# Altium schematic symbol library PCB_Project1.SCHLIB: 32 symbols
Pins are listed as number, name and electrical type; pins without a type are passive.

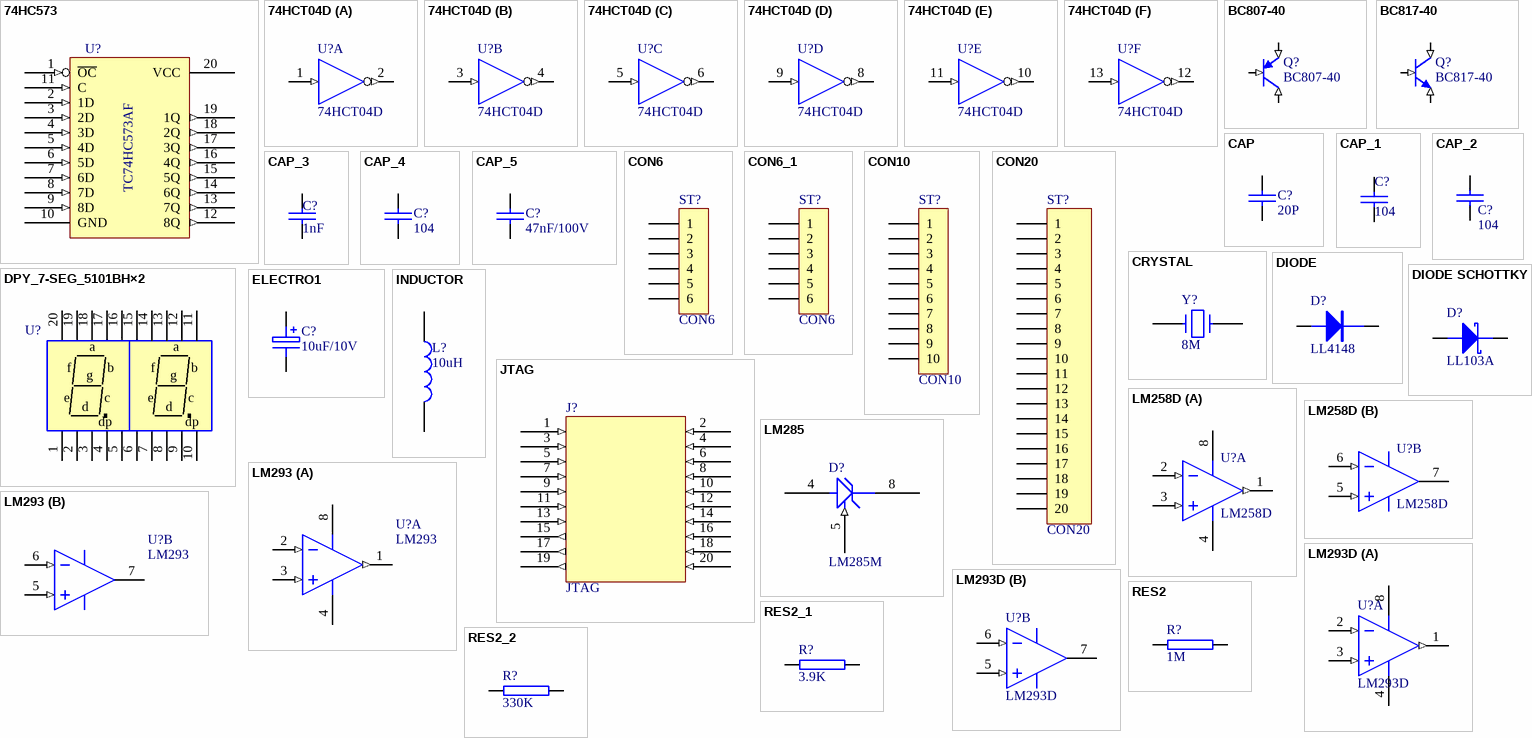
[diagram p0: symbols 74HC573 to RES2_2]

## 74HC573
designator U?, comment TC74HC573AF
footprint DIP-20
footprint SOP20-P-300-1.27
footprint 74HC573
pins: 1 ~{OC} (in), 2 1D (in), 3 2D (in), 4 3D (in), 5 4D (in), 6 5D (in), 7 6D (in), 8 7D (in), 9 8D (in), 10 GND (power), 11 C (in), 12 8Q (out), 13 7Q (out), 14 6Q (out), 15 5Q (out), 16 4Q (out), 17 3Q (out), 18 2Q (out), 19 1Q (out), 20 VCC (power)
2 alternate drawings of the same symbol

## 74HCT04D
designator U?
Hex Inverter
footprint DIP-14
simulation model 74HCT04D (SIMCODE)
footprint SO-14
part A pins: 1 A (in), 2 Y (out), 7 GND (power) hidden to GND, 14 VCC (power) hidden to VCC
part B pins: 3 A (in), 4 Y (out), 7 GND (power) hidden to GND, 14 3.3V (power) hidden to 3.3V
part C pins: 5 A (in), 6 Y (out), 7 GND (power) hidden to GND, 14 VCC (power) hidden to VCC
part D pins: 7 GND (power) hidden to GND, 8 Y (out), 9 A (in), 14 VCC (power) hidden to VCC
part E pins: 7 GND (power) hidden to GND, 10 Y (out), 11 A (in), 14 VCC (power) hidden to VCC
part F pins: 7 GND (power) hidden to GND, 12 Y (out), 13 A (in), 14 VCC (power) hidden to VCC
1 alternate drawing of the same symbol

## BC807-40
designator Q?
footprint SOT-23
pins: 1 B (in), 2 E (in), 3 C (in)

## BC817-40
designator Q?
footprint SOT-23
pins: 1 B (in), 2 E (in), 3 C (in)

## CAP
designator C?, comment 20P
Capacitor
footprint RAD0.2
footprint RAD0.3
footprint RAD0.4
footprint 1206
footprint 0603
pins: 1, 2
2 alternate drawings of the same symbol

## CAP_1
designator C?, comment 104
Capacitor
footprint 0805
footprint RAD0.2
footprint RAD0.3
footprint 1206
footprint 0603
pins: 1, 2
2 alternate drawings of the same symbol

## CAP_2
designator C?, comment 104
Capacitor
footprint RAD0.2
footprint RAD0.3
footprint RAD0.4
footprint 1206
footprint 0603
pins: 1, 2

## CAP_3
designator C?, comment 1nF
Capacitor
footprint 0805
footprint RAD0.2
footprint RAD0.3
footprint 1206
footprint 0603
pins: 1, 2

## CAP_4
designator C?, comment 104
footprint N0603
footprint D0603
footprint D_0805
footprint D0805
footprint 0603
pins: 1, 2
2 alternate drawings of the same symbol

## CAP_5
designator C?, comment 47nF/100V
Capacitor
footprint 0805
footprint RAD0.2
footprint RAD0.3
footprint 1206
pins: 1, 2

## CON6
designator ST?
Connector
footprint STOCKO6V
pins: 1, 2, 3, 4, 5, 6

## CON6_1
designator ST?, comment CON6
footprint 2.54-6
footprint SIP6-A
footprint MC1.5/6-GF-3.81
footprint TJC3-6T-A
pins: 1, 2, 3, 4, 5, 6

## CON10
designator ST?
Connector
footprint CON10
footprint SIP10-A
footprint IDC10-B
pins: 1, 2, 3, 4, 5, 6, 7, 8, 9, 10

## CON20
designator ST?
Connector
footprint STOCKO20V
pins: 1, 2, 3, 4, 5, 6, 7, 8, 9, 10, 11, 12, 13, 14, 15, 16, 17, 18, 19, 20

## CRYSTAL
designator Y?, comment 8M
Crystal
footprint CRYSTAL-8M
pins: 1, 2
2 alternate drawings of the same symbol

## DIODE
designator D?, comment LL4148
Diode
footprint DIOS130A
pins: 1 A, 2 K

## DIODE SCHOTTKY
designator D?, comment LL103A
Schottky Diode
footprint DIOS130A
pins: 1 A, 2 K

## DPY_7-SEG_5101BH×2
designator U?, comment 5101BH×2  (value not drawn)
footprint DIP-20
pins: 1, 2, 3, 4, 5, 6, 7, 8, 9, 10, 11, 12, 13, 14, 15, 16, 17, 18, 19, 20
text: a; f; b; g; e; c; d; dp

## ELECTRO1
designator C?, comment 10uF/10V
Electrolytic Capacitor
footprint C-坦电容
pins: 1, 2
2 alternate drawings of the same symbol

## INDUCTOR
designator L?, comment 10uH
footprint INDUCTOR
pins: 1, 2
2 alternate drawings of the same symbol

## JTAG
designator J?
footprint DIP-14
footprint J-TAG
pins: 1 (in), 2 (in), 3 (in), 4 (in), 5 (in), 6 (in), 7 (in), 8 (in), 9 (in), 10 (in), 11 (in), 12 (in), 13 (in), 14 (in), 15 (out), 16 (in), 17 (out), 18 (in), 19 (out), 20 (in)
2 alternate drawings of the same symbol

## LM258D
designator U?
JFET-Input Operational Amplifiers
footprint SO-8
footprint DIP-8
simulation model LM258D (SUBCKT)
part A pins: 1 OUT (out), 2 IN1- (in), 3 IN1+ (in), 4 VCC- (power), 8 VCC+ (power)
part B pins: 5 IN2+ (in), 6 IN2- (in), 7 OUT

## LM285
designator D?, comment LM285M
footprint SO-8
pins: 4 A, 5 ADJ (in), 8 C

## LM293
designator U?
JFET-Input Operational Amplifiers
footprint SO-8
footprint DIP-8
simulation model LM293 (SUBCKT)
part A pins: 1 OUT (out), 2 IN1- (in), 3 IN1+ (in), 4 VCC- (power), 8 VCC+ (power)
part B pins: 5 IN2+ (in), 6 IN2- (in), 7 OUT

## LM293D
designator U?
JFET-Input Operational Amplifiers
footprint SO-8
footprint DIP-8
simulation model LM293D (SUBCKT)
part A pins: 1 OUT (out), 2 IN1- (in), 3 IN1+ (in), 4 VCC- (power), 8 VCC+ (power)
part B pins: 5 IN2+ (in), 6 IN2- (in), 7 OUT

## RES2
designator R?, comment 1M
footprint 0805
footprint 1206
footprint AXIAL0.3
footprint AXIAL0.4
footprint 0603
pins: 1, 2
2 alternate drawings of the same symbol

## RES2_1
designator R?, comment 3.9K
footprint 0805
footprint 1206
footprint AXIAL0.3
footprint AXIAL0.4
footprint 0603
pins: 1, 2

## RES2_2
designator R?, comment 330K
footprint 1206
footprint AXIAL0.3
footprint AXIAL0.4
footprint AXIAL0.5
footprint 0603
pins: 1, 2

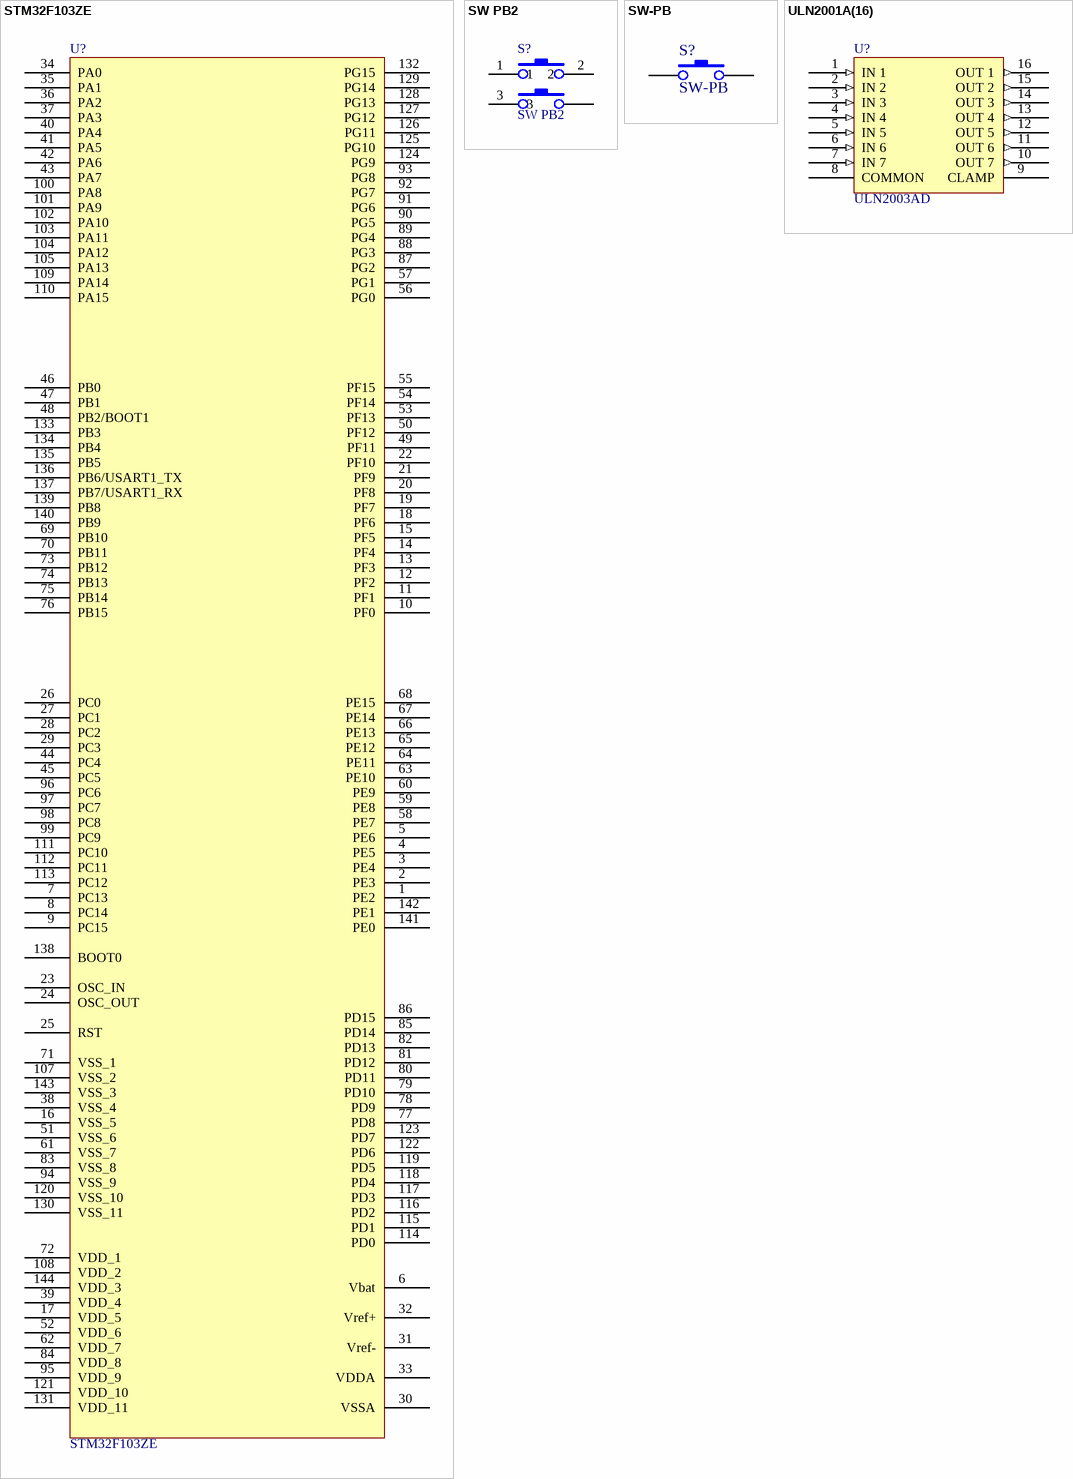
[diagram p1: symbols STM32F103ZE to ULN2001A(16)]

## STM32F103ZE
designator U?
footprint STM32F103ZE
pins: 1 PE2, 2 PE3, 3 PE4, 4 PE5, 5 PE6, 6 Vbat, 7 PC13, 8 PC14, 9 PC15, 10 PF0, 11 PF1, 12 PF2, 13 PF3, 14 PF4, 15 PF5, 16 VSS_5, 17 VDD_5, 18 PF6, 19 PF7, 20 PF8, 21 PF9, 22 PF10, 23 OSC_IN, 24 OSC_OUT, 25 RST, 26 PC0, 27 PC1, 28 PC2, 29 PC3, 30 VSSA, 31 Vref-, 32 Vref+, 33 VDDA, 34 PA0, 35 PA1, 36 PA2, 37 PA3, 38 VSS_4, 39 VDD_4, 40 PA4, 41 PA5, 42 PA6, 43 PA7, 44 PC4, 45 PC5, 46 PB0, 47 PB1, 48 PB2/BOOT1, 49 PF11, 50 PF12, 51 VSS_6, 52 VDD_6, 53 PF13, 54 PF14, 55 PF15, 56 PG0, 57 PG1, 58 PE7, 59 PE8, 60 PE9, 61 VSS_7, 62 VDD_7, 63 PE10, 64 PE11, 65 PE12, 66 PE13, 67 PE14, 68 PE15, 69 PB10, 70 PB11, 71 VSS_1, 72 VDD_1, 73 PB12, 74 PB13, 75 PB14, 76 PB15, 77 PD8, 78 PD9, 79 PD10, 80 PD11, 81 PD12, 82 PD13, 83 VSS_8, 84 VDD_8, 85 PD14, 86 PD15, 87 PG2, 88 PG3, 89 PG4, 90 PG5, 91 PG6, 92 PG7, 93 PG8, 94 VSS_9, 95 VDD_9, 96 PC6, 97 PC7, 98 PC8, 99 PC9, 100 PA8, 101 PA9, 102 PA10, 103 PA11, 104 PA12, 105 PA13, 106 NC hidden to NC, 107 VSS_2, 108 VDD_2, 109 PA14, 110 PA15, 111 PC10, 112 PC11, 113 PC12, 114 PD0, 115 PD1, 116 PD2, 117 PD3, 118 PD4, 119 PD5, 120 VSS_10, 121 VDD_10, 122 PD6, 123 PD7, 124 PG9, 125 PG10, 126 PG11, 127 PG12, 128 PG13, 129 PG14, 130 VSS_11, 131 VDD_11, 132 PG15, 133 PB3, 134 PB4, 135 PB5, 136 PB6/USART1_TX, 137 PB7/USART1_RX, 138 BOOT0, 139 PB8, 140 PB9, 141 PE0, 142 PE1, 143 VSS_3, 144 VDD_3
2 alternate drawings of the same symbol

## SW PB2
designator S?
footprint BUTTON (Footprint not found)
pins: 1, 2, 3, 4

## SW-PB
designator S?
footprint BUTTON
pins: 1, 2

## ULN2001A(16)
designator U?, comment ULN2003AD
HIGH-VOLTAGE,HIGH-CURRENT DARLINGTON ARRAYS
footprint SO-16
pins: 1 IN 1 (in), 2 IN 2 (in), 3 IN 3 (in), 4 IN 4 (in), 5 IN 5 (in), 6 IN 6 (in), 7 IN 7 (in), 8 COMMON, 9 CLAMP, 10 OUT 7 (out), 11 OUT 6 (out), 12 OUT 5 (out), 13 OUT 4 (out), 14 OUT 3 (out), 15 OUT 2 (out), 16 OUT 1 (out)